# Altium schematic symbol library WCAP-PTG5.SchLib: 32 symbols
Pins are listed as number, name and electrical type; pins without a type are passive.

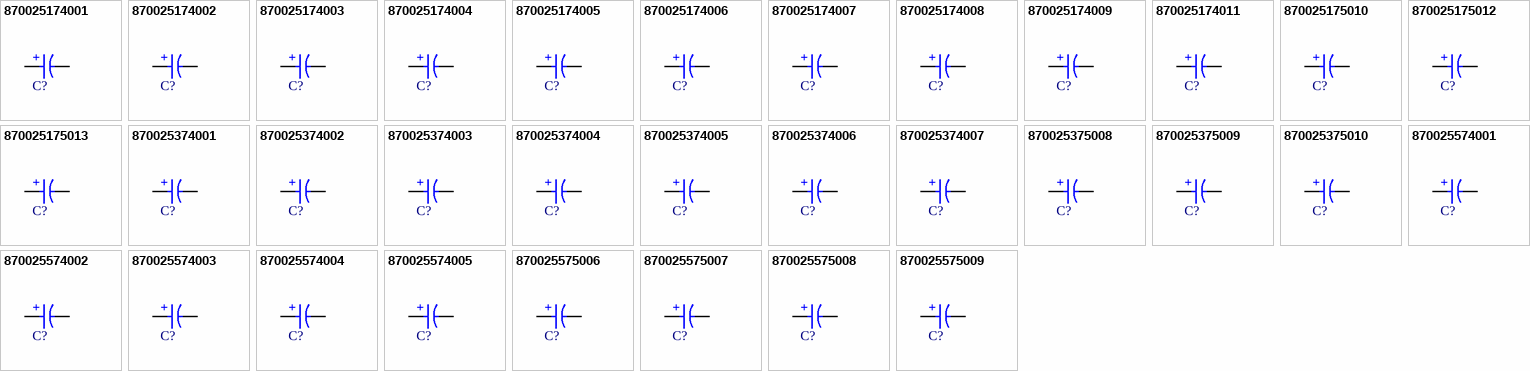
[diagram p0: symbols 870025174001 to 870025575009]

## 870025174001
designator C?, comment 180µF  (value not drawn)
WCAP-PTG5 Aluminum Polymer Capacitor, Radial THT, D8 x H8mm, 180µF, 6.3V; Manufacturer Part Number: 870025174001; Manufacturer: Wurth Elektronik; Capacitance Tolerance: +/-20%; Dissipation Factor: 7%; Endurance: 2000h; ESR: 21mΩ; Leakage Current: 226.8µA; Ripple Current: 5100mA; Technical Reference: PTEE080181M6R3DSPA7B000; Category: Aluminum Polymer Capacitors; Match Code: WCAP-PTG5; ComponentLink1Description: Website Link; ComponentLink1URL: https://www.we-online.com/redexpert/article/870025174001?ad; ComponentLink2Description: Datasheet Link; ComponentLink2URL: https://www.we-online.com/redexpert/spec/870025174001?ad; Mount: Through Hole; Operating Temperature Max: 105°C; Operating Temperature Min: -55°C; Packaging: Ammo Pack; Height: 8mm; Diameter: 8mm; Capacitance: 180µF; Rated Voltage (DC): 6.3V
footprint WCAP-PTG5_D8H8
simulation model 870025174001_180uF
pins: 1 P, 2 N
text: +

## 870025174002
designator C?, comment 220µF  (value not drawn)
WCAP-PTG5 Aluminum Polymer Capacitor, Radial THT, D8 x H8mm, 220µF, 6.3V; Manufacturer Part Number: 870025174002; Manufacturer: Wurth Elektronik; Capacitance Tolerance: +/-20%; Dissipation Factor: 7%; Endurance: 2000h; ESR: 21mΩ; Leakage Current: 277µA; Ripple Current: 5100mA; Technical Reference: PTEE080221M6R3DSPA7B000; Category: Aluminum Polymer Capacitors; Match Code: WCAP-PTG5; ComponentLink1Description: Website Link; ComponentLink1URL: https://www.we-online.com/redexpert/article/870025174002?ad; ComponentLink2Description: Datasheet Link; ComponentLink2URL: https://www.we-online.com/redexpert/spec/870025174002?ad; Mount: Through Hole; Operating Temperature Max: 105°C; Operating Temperature Min: -55°C; Packaging: Ammo Pack; Height: 8mm; Diameter: 8mm; Capacitance: 220µF; Rated Voltage (DC): 6.3V
footprint WCAP-PTG5_D8H8
simulation model 870025174002_220uF
pins: 1 P, 2 N
text: +

## 870025174003
designator C?, comment 270µF  (value not drawn)
WCAP-PTG5 Aluminum Polymer Capacitor, Radial THT, D8 x H8mm, 270µF, 6.3V; Manufacturer Part Number: 870025174003; Manufacturer: Wurth Elektronik; Capacitance Tolerance: +/-20%; Dissipation Factor: 7%; Endurance: 2000h; ESR: 21mΩ; Leakage Current: 340.2µA; Ripple Current: 5100mA; Technical Reference: PTEE080271M6R3DSPA7B000; Category: Aluminum Polymer Capacitors; Match Code: WCAP-PTG5; ComponentLink1Description: Website Link; ComponentLink1URL: https://www.we-online.com/redexpert/article/870025174003?ad; ComponentLink2Description: Datasheet Link; ComponentLink2URL: https://www.we-online.com/redexpert/spec/870025174003?ad; Mount: Through Hole; Operating Temperature Max: 105°C; Operating Temperature Min: -55°C; Packaging: Ammo Pack; Height: 8mm; Diameter: 8mm; Capacitance: 270µF; Rated Voltage (DC): 6.3V
footprint WCAP-PTG5_D8H8
simulation model 870025174003_270uF
pins: 1 P, 2 N
text: +

## 870025174004
designator C?, comment 330µF  (value not drawn)
WCAP-PTG5 Aluminum Polymer Capacitor, Radial THT, D8 x H8mm, 330µF, 6.3V; Manufacturer Part Number: 870025174004; Manufacturer: Wurth Elektronik; Capacitance Tolerance: +/-20%; Dissipation Factor: 7%; Endurance: 2000h; ESR: 15mΩ; Leakage Current: 416µA; Ripple Current: 5100mA; Technical Reference: PTEE080331M6R3DSPA7B000; Category: Aluminum Polymer Capacitors; Match Code: WCAP-PTG5; ComponentLink1Description: Website Link; ComponentLink1URL: https://www.we-online.com/redexpert/article/870025174004?ad; ComponentLink2Description: Datasheet Link; ComponentLink2URL: https://www.we-online.com/redexpert/spec/870025174004?ad; Mount: Through Hole; Operating Temperature Max: 105°C; Operating Temperature Min: -55°C; Packaging: Ammo Pack; Height: 8mm; Diameter: 8mm; Capacitance: 330µF; Rated Voltage (DC): 6.3V
footprint WCAP-PTG5_D8H8
simulation model 870025174004_330uF
pins: 1 P, 2 N
text: +

## 870025174005
designator C?, comment 390µF  (value not drawn)
WCAP-PTG5 Aluminum Polymer Capacitor, Radial THT, D8 x H8mm, 390µF, 6.3V; Manufacturer Part Number: 870025174005; Manufacturer: Wurth Elektronik; Capacitance Tolerance: +/-20%; Dissipation Factor: 8%; Endurance: 2000h; ESR: 15mΩ; Leakage Current: 491µA; Ripple Current: 5100mA; Technical Reference: PTEE080391M6R3DSPA7B000; Category: Aluminum Polymer Capacitors; Match Code: WCAP-PTG5; ComponentLink1Description: Website Link; ComponentLink1URL: https://www.we-online.com/redexpert/article/870025174005?ad; ComponentLink2Description: Datasheet Link; ComponentLink2URL: https://www.we-online.com/redexpert/spec/870025174005?ad; Mount: Through Hole; Operating Temperature Max: 105°C; Operating Temperature Min: -55°C; Packaging: Ammo Pack; Height: 8mm; Diameter: 8mm; Capacitance: 390µF; Rated Voltage (DC): 6.3V
footprint WCAP-PTG5_D8H8
simulation model 870025174005_390uF
pins: 1 P, 2 N
text: +

## 870025174006
designator C?, comment 470µF  (value not drawn)
WCAP-PTG5 Aluminum Polymer Capacitor, Radial THT, D8 x H8mm, 470µF, 6.3V; Manufacturer Part Number: 870025174006; Manufacturer: Wurth Elektronik; Capacitance Tolerance: +/-20%; Dissipation Factor: 8%; Endurance: 2000h; ESR: 12mΩ; Leakage Current: 592µA; Ripple Current: 5100mA; Technical Reference: PTEE080471M6R3DSPA7B000; Category: Aluminum Polymer Capacitors; Match Code: WCAP-PTG5; ComponentLink1Description: Website Link; ComponentLink1URL: https://www.we-online.com/redexpert/article/870025174006?ad; ComponentLink2Description: Datasheet Link; ComponentLink2URL: https://www.we-online.com/redexpert/spec/870025174006?ad; Mount: Through Hole; Operating Temperature Max: 105°C; Operating Temperature Min: -55°C; Packaging: Ammo Pack; Height: 8mm; Diameter: 8mm; Capacitance: 470µF; Rated Voltage (DC): 6.3V
footprint WCAP-PTG5_D8H8
simulation model 870025174006_470uF
pins: 1 P, 2 N
text: +

## 870025174007
designator C?, comment 560µF  (value not drawn)
WCAP-PTG5 Aluminum Polymer Capacitor, Radial THT, D8 x H8mm, 560µF, 6.3V; Manufacturer Part Number: 870025174007; Manufacturer: Wurth Elektronik; Capacitance Tolerance: +/-20%; Dissipation Factor: 8%; Endurance: 2000h; ESR: 12mΩ; Leakage Current: 705.6µA; Ripple Current: 5100mA; Technical Reference: PTEE080561M6R3DSPA7B000; Category: Aluminum Polymer Capacitors; Match Code: WCAP-PTG5; ComponentLink1Description: Website Link; ComponentLink1URL: https://www.we-online.com/redexpert/article/870025174007?ad; ComponentLink2Description: Datasheet Link; ComponentLink2URL: https://www.we-online.com/redexpert/spec/870025174007?ad; Mount: Through Hole; Operating Temperature Max: 105°C; Operating Temperature Min: -55°C; Packaging: Ammo Pack; Height: 8mm; Diameter: 8mm; Capacitance: 560µF; Rated Voltage (DC): 6.3V
footprint WCAP-PTG5_D8H8
simulation model 870025174007_560uF
pins: 1 P, 2 N
text: +

## 870025174008
designator C?, comment 680µF  (value not drawn)
WCAP-PTG5 Aluminum Polymer Capacitor, Radial THT, D8 x H8mm, 680µF, 6.3V; Manufacturer Part Number: 870025174008; Manufacturer: Wurth Elektronik; Capacitance Tolerance: +/-20%; Dissipation Factor: 8%; Endurance: 2000h; ESR: 10mΩ; Leakage Current: 428µA; Ripple Current: 5100mA; Technical Reference: PTEE080681M6R3DSPA7B000; Category: Aluminum Polymer Capacitors; Match Code: WCAP-PTG5; ComponentLink1Description: Website Link; ComponentLink1URL: https://www.we-online.com/redexpert/article/870025174008?ad; ComponentLink2Description: Datasheet Link; ComponentLink2URL: https://www.we-online.com/redexpert/spec/870025174008?ad; Mount: Through Hole; Operating Temperature Max: 105°C; Operating Temperature Min: -55°C; Packaging: Ammo Pack; Height: 8mm; Diameter: 8mm; Capacitance: 680µF; Rated Voltage (DC): 6.3V
footprint WCAP-PTG5_D8H8
simulation model 870025174008_680uF
pins: 1 P, 2 N
text: +

## 870025174009
designator C?, comment 820µF  (value not drawn)
WCAP-PTG5 Aluminum Polymer Capacitor, Radial THT, D8 x H8mm, 820µF, 6.3V; Manufacturer Part Number: 870025174009; Manufacturer: Wurth Elektronik; Capacitance Tolerance: +/-20%; Dissipation Factor: 10%; Endurance: 2000h; ESR: 12mΩ; Leakage Current: 516.6µA; Ripple Current: 5100mA; Technical Reference: PTEE080821M6R3DSPA7B000; Category: Aluminum Polymer Capacitors; Match Code: WCAP-PTG5; ComponentLink1Description: Website Link; ComponentLink1URL: https://www.we-online.com/redexpert/article/870025174009?ad; ComponentLink2Description: Datasheet Link; ComponentLink2URL: https://www.we-online.com/redexpert/spec/870025174009?ad; Mount: Through Hole; Operating Temperature Max: 105°C; Operating Temperature Min: -55°C; Packaging: Ammo Pack; Height: 8mm; Diameter: 8mm; Capacitance: 820µF; Rated Voltage (DC): 6.3V
footprint WCAP-PTG5_D8H8
simulation model 870025174009_820uF
pins: 1 P, 2 N
text: +

## 870025174011
designator C?, comment 1200µF  (value not drawn)
WCAP-PTG5 Aluminum Polymer Capacitor, Radial THT, D8 x H11.5mm, 1200µF, 6.3V; Manufacturer Part Number: 870025174011; Manufacturer: Wurth Elektronik; Capacitance Tolerance: +/-20%; Dissipation Factor: 10%; Endurance: 2000h; ESR: 12mΩ; Leakage Current: 756µA; Ripple Current: 5500mA; Technical Reference: PTEE115122M6R3DSPA7B000; Category: Aluminum Polymer Capacitors; Match Code: WCAP-PTG5; ComponentLink1Description: Website Link; ComponentLink1URL: https://www.we-online.com/redexpert/article/870025174011?ad; ComponentLink2Description: Datasheet Link; ComponentLink2URL: https://www.we-online.com/redexpert/spec/870025174011?ad; Mount: Through Hole; Operating Temperature Max: 105°C; Operating Temperature Min: -55°C; Packaging: Ammo Pack; Height: 11.5mm; Diameter: 8mm; Capacitance: 1200µF; Rated Voltage (DC): 6.3V
footprint WCAP-PTG5_D8H11.5
simulation model 870025174011_1.2mF
pins: 1 P, 2 N
text: +

## 870025175010
designator C?, comment 1000µF  (value not drawn)
WCAP-PTG5 Aluminum Polymer Capacitor, Radial THT, D10 x H12.5mm, 1000µF, 6.3V; Manufacturer Part Number: 870025175010; Manufacturer: Wurth Elektronik; Capacitance Tolerance: +/-20%; Dissipation Factor: 10%; Endurance: 2000h; ESR: 12mΩ; Leakage Current: 630µA; Ripple Current: 5900mA; Technical Reference: PTEF125102M6R3DSPA9B000; Category: Aluminum Polymer Capacitors; Match Code: WCAP-PTG5; ComponentLink1Description: Website Link; ComponentLink1URL: https://www.we-online.com/redexpert/article/870025175010?ad; ComponentLink2Description: Datasheet Link; ComponentLink2URL: https://www.we-online.com/redexpert/spec/870025175010?ad; Mount: Through Hole; Operating Temperature Max: 105°C; Operating Temperature Min: -55°C; Packaging: Ammo Pack; Height: 12.5mm; Diameter: 10mm; Capacitance: 1000µF; Rated Voltage (DC): 6.3V
footprint WCAP-PTG5_D10H12.5
simulation model 870025175010_1mF
pins: 1 P, 2 N
text: +

## 870025175012
designator C?, comment 1500µF  (value not drawn)
WCAP-PTG5 Aluminum Polymer Capacitor, Radial THT, D10 x H12.5mm, 1500µF, 6.3V; Manufacturer Part Number: 870025175012; Manufacturer: Wurth Elektronik; Capacitance Tolerance: +/-20%; Dissipation Factor: 10%; Endurance: 2000h; ESR: 12mΩ; Leakage Current: 945µA; Ripple Current: 5900mA; Technical Reference: PTEF125152M6R3DSPA9B000; Category: Aluminum Polymer Capacitors; Match Code: WCAP-PTG5; ComponentLink1Description: Website Link; ComponentLink1URL: https://www.we-online.com/redexpert/article/870025175012?ad; ComponentLink2Description: Datasheet Link; ComponentLink2URL: https://www.we-online.com/redexpert/spec/870025175012?ad; Mount: Through Hole; Operating Temperature Max: 105°C; Operating Temperature Min: -55°C; Packaging: Ammo Pack; Height: 12.5mm; Diameter: 10mm; Capacitance: 1500µF; Rated Voltage (DC): 6.3V
footprint WCAP-PTG5_D10H12.5
simulation model 870025175012_1.5mF
pins: 1 P, 2 N
text: +

## 870025175013
designator C?, comment 2000µF  (value not drawn)
WCAP-PTG5 Aluminum Polymer Capacitor, Radial THT, D10 x H12.5mm, 2000µF, 6.3V; Manufacturer Part Number: 870025175013; Manufacturer: Wurth Elektronik; Capacitance Tolerance: +/-20%; Dissipation Factor: 10%; Endurance: 2000h; ESR: 12mΩ; Leakage Current: 1260µA; Ripple Current: 5900mA; Technical Reference: PTEF125202M6R3DSPA9B000; Category: Aluminum Polymer Capacitors; Match Code: WCAP-PTG5; ComponentLink1Description: Website Link; ComponentLink1URL: https://www.we-online.com/redexpert/article/870025175013?ad; ComponentLink2Description: Datasheet Link; ComponentLink2URL: https://www.we-online.com/redexpert/spec/870025175013?ad; Mount: Through Hole; Operating Temperature Max: 105°C; Operating Temperature Min: -55°C; Packaging: Ammo Pack; Height: 12.5mm; Diameter: 10mm; Capacitance: 2000µF; Rated Voltage (DC): 6.3V
footprint WCAP-PTG5_D10H12.5
simulation model 870025175013_2mF
pins: 1 P, 2 N
text: +

## 870025374001
designator C?, comment 100µF  (value not drawn)
WCAP-PTG5 Aluminum Polymer Capacitor, Radial THT, D8 x H11.5mm, 100µF, 16V; Manufacturer Part Number: 870025374001; Manufacturer: Wurth Elektronik; Capacitance Tolerance: +/-20%; Dissipation Factor: 8%; Endurance: 2000h; ESR: 12mΩ; Leakage Current: 160µA; Ripple Current: 4800mA; Technical Reference: PTEE115101M016DSPA7B000; Category: Aluminum Polymer Capacitors; Match Code: WCAP-PTG5; ComponentLink1Description: Website Link; ComponentLink1URL: https://www.we-online.com/redexpert/article/870025374001?ad; ComponentLink2Description: Datasheet Link; ComponentLink2URL: https://www.we-online.com/redexpert/spec/870025374001?ad; Mount: Through Hole; Operating Temperature Max: 105°C; Operating Temperature Min: -55°C; Packaging: Ammo Pack; Height: 11.5mm; Diameter: 8mm; Capacitance: 100µF; Rated Voltage (DC): 16V
footprint WCAP-PTG5_D8H11.5
simulation model 870025374001_100uF
pins: 1 P, 2 N
text: +

## 870025374002
designator C?, comment 180µF  (value not drawn)
WCAP-PTG5 Aluminum Polymer Capacitor, Radial THT, D8 x H8mm, 180µF, 16V; Manufacturer Part Number: 870025374002; Manufacturer: Wurth Elektronik; Capacitance Tolerance: +/-20%; Dissipation Factor: 8%; Endurance: 2000h; ESR: 15mΩ; Leakage Current: 288µA; Ripple Current: 4500mA; Technical Reference: PTEE080181M016DSPA7B000; Category: Aluminum Polymer Capacitors; Match Code: WCAP-PTG5; ComponentLink1Description: Website Link; ComponentLink1URL: https://www.we-online.com/redexpert/article/870025374002?ad; ComponentLink2Description: Datasheet Link; ComponentLink2URL: https://www.we-online.com/redexpert/spec/870025374002?ad; Mount: Through Hole; Operating Temperature Max: 105°C; Operating Temperature Min: -55°C; Packaging: Ammo Pack; Height: 8mm; Diameter: 8mm; Capacitance: 180µF; Rated Voltage (DC): 16V
footprint WCAP-PTG5_D8H8
simulation model 870025374002_180uF
pins: 1 P, 2 N
text: +

## 870025374003
designator C?, comment 220µF  (value not drawn)
WCAP-PTG5 Aluminum Polymer Capacitor, Radial THT, D8 x H8mm, 220µF, 16V; Manufacturer Part Number: 870025374003; Manufacturer: Wurth Elektronik; Capacitance Tolerance: +/-20%; Dissipation Factor: 8%; Endurance: 2000h; ESR: 15mΩ; Leakage Current: 352µA; Ripple Current: 4500mA; Technical Reference: PTEE080221M016DSPA7B000; Category: Aluminum Polymer Capacitors; Match Code: WCAP-PTG5; ComponentLink1Description: Website Link; ComponentLink1URL: https://www.we-online.com/redexpert/article/870025374003?ad; ComponentLink2Description: Datasheet Link; ComponentLink2URL: https://www.we-online.com/redexpert/spec/870025374003?ad; Mount: Through Hole; Operating Temperature Max: 105°C; Operating Temperature Min: -55°C; Packaging: Ammo Pack; Height: 8mm; Diameter: 8mm; Capacitance: 220µF; Rated Voltage (DC): 16V
footprint WCAP-PTG5_D8H8
simulation model 870025374003_220uF
pins: 1 P, 2 N
text: +

## 870025374004
designator C?, comment 270µF  (value not drawn)
WCAP-PTG5 Aluminum Polymer Capacitor, Radial THT, D8 x H8mm, 270µF, 16V; Manufacturer Part Number: 870025374004; Manufacturer: Wurth Elektronik; Capacitance Tolerance: +/-20%; Dissipation Factor: 8%; Endurance: 2000h; ESR: 12mΩ; Leakage Current: 432µA; Ripple Current: 4500mA; Technical Reference: PTEE080271M016DSPA7B000; Category: Aluminum Polymer Capacitors; Match Code: WCAP-PTG5; ComponentLink1Description: Website Link; ComponentLink1URL: https://www.we-online.com/redexpert/article/870025374004?ad; ComponentLink2Description: Datasheet Link; ComponentLink2URL: https://www.we-online.com/redexpert/spec/870025374004?ad; Mount: Through Hole; Operating Temperature Max: 105°C; Operating Temperature Min: -55°C; Packaging: Ammo Pack; Height: 8mm; Diameter: 8mm; Capacitance: 270µF; Rated Voltage (DC): 16V
footprint WCAP-PTG5_D8H8
simulation model 870025374004_270uF
pins: 1 P, 2 N
text: +

## 870025374005
designator C?, comment 330µF  (value not drawn)
WCAP-PTG5 Aluminum Polymer Capacitor, Radial THT, D8 x H8mm, 330µF, 16V; Manufacturer Part Number: 870025374005; Manufacturer: Wurth Elektronik; Capacitance Tolerance: +/-20%; Dissipation Factor: 8%; Endurance: 2000h; ESR: 12mΩ; Leakage Current: 528µA; Ripple Current: 4500mA; Technical Reference: PTEE080331M016DSPA7B000; Category: Aluminum Polymer Capacitors; Match Code: WCAP-PTG5; ComponentLink1Description: Website Link; ComponentLink1URL: https://www.we-online.com/redexpert/article/870025374005?ad; ComponentLink2Description: Datasheet Link; ComponentLink2URL: https://www.we-online.com/redexpert/spec/870025374005?ad; Mount: Through Hole; Operating Temperature Max: 105°C; Operating Temperature Min: -55°C; Packaging: Ammo Pack; Height: 8mm; Diameter: 8mm; Capacitance: 330µF; Rated Voltage (DC): 16V
footprint WCAP-PTG5_D8H8
simulation model 870025374005_330uF
pins: 1 P, 2 N
text: +

## 870025374006
designator C?, comment 390µF  (value not drawn)
WCAP-PTG5 Aluminum Polymer Capacitor, Radial THT, D8 x H11.5mm, 390µF, 16V; Manufacturer Part Number: 870025374006; Manufacturer: Wurth Elektronik; Capacitance Tolerance: +/-20%; Dissipation Factor: 8%; Endurance: 2000h; ESR: 12mΩ; Leakage Current: 624µA; Ripple Current: 5000mA; Technical Reference: PTEE115391M016DSPA7B000; Category: Aluminum Polymer Capacitors; Match Code: WCAP-PTG5; ComponentLink1Description: Website Link; ComponentLink1URL: https://www.we-online.com/redexpert/article/870025374006?ad; ComponentLink2Description: Datasheet Link; ComponentLink2URL: https://www.we-online.com/redexpert/spec/870025374006?ad; Mount: Through Hole; Operating Temperature Max: 105°C; Operating Temperature Min: -55°C; Packaging: Ammo Pack; Height: 11.5mm; Diameter: 8mm; Capacitance: 390µF; Rated Voltage (DC): 16V
footprint WCAP-PTG5_D8H11.5
simulation model 870025374006_390uF
pins: 1 P, 2 N
text: +

## 870025374007
designator C?, comment 470µF  (value not drawn)
WCAP-PTG5 Aluminum Polymer Capacitor, Radial THT, D8 x H11.5mm, 470µF, 16V; Manufacturer Part Number: 870025374007; Manufacturer: Wurth Elektronik; Capacitance Tolerance: +/-20%; Dissipation Factor: 10%; Endurance: 2000h; ESR: 12mΩ; Leakage Current: 752µA; Ripple Current: 5000mA; Technical Reference: PTEE115471M016DSPA7B000; Category: Aluminum Polymer Capacitors; Match Code: WCAP-PTG5; ComponentLink1Description: Website Link; ComponentLink1URL: https://www.we-online.com/redexpert/article/870025374007?ad; ComponentLink2Description: Datasheet Link; ComponentLink2URL: https://www.we-online.com/redexpert/spec/870025374007?ad; Mount: Through Hole; Operating Temperature Max: 105°C; Operating Temperature Min: -55°C; Packaging: Ammo Pack; Height: 11.5mm; Diameter: 8mm; Capacitance: 470µF; Rated Voltage (DC): 16V
footprint WCAP-PTG5_D8H11.5
simulation model 870025374007_470uF
pins: 1 P, 2 N
text: +

## 870025375008
designator C?, comment 560µF  (value not drawn)
WCAP-PTG5 Aluminum Polymer Capacitor, Radial THT, D10 x H12.5mm, 560µF, 16V; Manufacturer Part Number: 870025375008; Manufacturer: Wurth Elektronik; Capacitance Tolerance: +/-20%; Dissipation Factor: 10%; Endurance: 2000h; ESR: 12mΩ; Leakage Current: 896µA; Ripple Current: 5500mA; Technical Reference: PTEF125561M016DSPA9B000; Category: Aluminum Polymer Capacitors; Match Code: WCAP-PTG5; ComponentLink1Description: Website Link; ComponentLink1URL: https://www.we-online.com/redexpert/article/870025375008?ad; ComponentLink2Description: Datasheet Link; ComponentLink2URL: https://www.we-online.com/redexpert/spec/870025375008?ad; Mount: Through Hole; Operating Temperature Max: 105°C; Operating Temperature Min: -55°C; Packaging: Ammo Pack; Height: 12.5mm; Diameter: 10mm; Capacitance: 560µF; Rated Voltage (DC): 16V
footprint WCAP-PTG5_D10H12.5
simulation model 870025375008_560uF
pins: 1 P, 2 N
text: +

## 870025375009
designator C?, comment 680µF  (value not drawn)
WCAP-PTG5 Aluminum Polymer Capacitor, Radial THT, D10 x H12.5mm, 680µF, 16V; Manufacturer Part Number: 870025375009; Manufacturer: Wurth Elektronik; Capacitance Tolerance: +/-20%; Dissipation Factor: 10%; Endurance: 2000h; ESR: 12mΩ; Leakage Current: 1000µA; Ripple Current: 5500mA; Technical Reference: PTEF125681M016DSPA9B000; Category: Aluminum Polymer Capacitors; Match Code: WCAP-PTG5; ComponentLink1Description: Website Link; ComponentLink1URL: https://www.we-online.com/redexpert/article/870025375009?ad; ComponentLink2Description: Datasheet Link; ComponentLink2URL: https://www.we-online.com/redexpert/spec/870025375009?ad; Mount: Through Hole; Operating Temperature Max: 105°C; Operating Temperature Min: -55°C; Packaging: Ammo Pack; Height: 12.5mm; Diameter: 10mm; Capacitance: 680µF; Rated Voltage (DC): 16V
footprint WCAP-PTG5_D10H12.5
simulation model 870025375009_680uF
pins: 1 P, 2 N
text: +

## 870025375010
designator C?, comment 820µF  (value not drawn)
WCAP-PTG5 Aluminum Polymer Capacitor, Radial THT, D10 x H12.5mm, 820µF, 16V; Manufacturer Part Number: 870025375010; Manufacturer: Wurth Elektronik; Capacitance Tolerance: +/-20%; Dissipation Factor: 10%; Endurance: 2000h; ESR: 12mΩ; Leakage Current: 1000µA; Ripple Current: 5500mA; Technical Reference: PTEF125821M016DSPA9B000; Category: Aluminum Polymer Capacitors; Match Code: WCAP-PTG5; ComponentLink1Description: Website Link; ComponentLink1URL: https://www.we-online.com/redexpert/article/870025375010?ad; ComponentLink2Description: Datasheet Link; ComponentLink2URL: https://www.we-online.com/redexpert/spec/870025375010?ad; Mount: Through Hole; Operating Temperature Max: 105°C; Operating Temperature Min: -55°C; Packaging: Ammo Pack; Height: 12.5mm; Diameter: 10mm; Capacitance: 820µF; Rated Voltage (DC): 16V
footprint WCAP-PTG5_D10H12.5
simulation model 870025375010_820uF
pins: 1 P, 2 N
text: +

## 870025574001
designator C?, comment 39µF  (value not drawn)
WCAP-PTG5 Aluminum Polymer Capacitor, Radial THT, D8 x H8mm, 39µF, 25V; Manufacturer Part Number: 870025574001; Manufacturer: Wurth Elektronik; Capacitance Tolerance: +/-20%; Dissipation Factor: 8%; Endurance: 2000h; ESR: 25mΩ; Leakage Current: 195µA; Ripple Current: 4500mA; Technical Reference: PTEE080390M025DSPA7B000; Category: Aluminum Polymer Capacitors; Match Code: WCAP-PTG5; ComponentLink1Description: Website Link; ComponentLink1URL: https://www.we-online.com/redexpert/article/870025574001?ad; ComponentLink2Description: Datasheet Link; ComponentLink2URL: https://www.we-online.com/redexpert/spec/870025574001?ad; Mount: Through Hole; Operating Temperature Max: 105°C; Operating Temperature Min: -55°C; Packaging: Ammo Pack; Height: 8mm; Diameter: 8mm; Capacitance: 39µF; Rated Voltage (DC): 25V
footprint WCAP-PTG5_D8H8
simulation model 870025574001_39uF
pins: 1 P, 2 N
text: +

## 870025574002
designator C?, comment 47µF  (value not drawn)
WCAP-PTG5 Aluminum Polymer Capacitor, Radial THT, D8 x H8mm, 47µF, 25V; Manufacturer Part Number: 870025574002; Manufacturer: Wurth Elektronik; Capacitance Tolerance: +/-20%; Dissipation Factor: 8%; Endurance: 2000h; ESR: 20mΩ; Leakage Current: 235µA; Ripple Current: 4500mA; Technical Reference: PTEE080470M025DSPA7B000; Category: Aluminum Polymer Capacitors; Match Code: WCAP-PTG5; ComponentLink1Description: Website Link; ComponentLink1URL: https://www.we-online.com/redexpert/article/870025574002?ad; ComponentLink2Description: Datasheet Link; ComponentLink2URL: https://www.we-online.com/redexpert/spec/870025574002?ad; Mount: Through Hole; Operating Temperature Max: 105°C; Operating Temperature Min: -55°C; Packaging: Ammo Pack; Height: 8mm; Diameter: 8mm; Capacitance: 47µF; Rated Voltage (DC): 25V
footprint WCAP-PTG5_D8H8
simulation model 870025574002_47uF
pins: 1 P, 2 N
text: +

## 870025574003
designator C?, comment 68µF  (value not drawn)
WCAP-PTG5 Aluminum Polymer Capacitor, Radial THT, D8 x H8mm, 68µF, 25V; Manufacturer Part Number: 870025574003; Manufacturer: Wurth Elektronik; Capacitance Tolerance: +/-20%; Dissipation Factor: 8%; Endurance: 2000h; ESR: 20mΩ; Leakage Current: 340µA; Ripple Current: 4500mA; Technical Reference: PTEE080680M025DSPA7B000; Category: Aluminum Polymer Capacitors; Match Code: WCAP-PTG5; ComponentLink1Description: Website Link; ComponentLink1URL: https://www.we-online.com/redexpert/article/870025574003?ad; ComponentLink2Description: Datasheet Link; ComponentLink2URL: https://www.we-online.com/redexpert/spec/870025574003?ad; Mount: Through Hole; Operating Temperature Max: 105°C; Operating Temperature Min: -55°C; Packaging: Ammo Pack; Height: 8mm; Diameter: 8mm; Capacitance: 68µF; Rated Voltage (DC): 25V
footprint WCAP-PTG5_D8H8
simulation model 870025574003_68uF
pins: 1 P, 2 N
text: +

## 870025574004
designator C?, comment 82µF  (value not drawn)
WCAP-PTG5 Aluminum Polymer Capacitor, Radial THT, D8 x H8mm, 82µF, 25V; Manufacturer Part Number: 870025574004; Manufacturer: Wurth Elektronik; Capacitance Tolerance: +/-20%; Dissipation Factor: 8%; Endurance: 2000h; ESR: 20mΩ; Leakage Current: 410µA; Ripple Current: 4500mA; Technical Reference: PTEE080820M025DSPA7B000; Category: Aluminum Polymer Capacitors; Match Code: WCAP-PTG5; ComponentLink1Description: Website Link; ComponentLink1URL: https://www.we-online.com/redexpert/article/870025574004?ad; ComponentLink2Description: Datasheet Link; ComponentLink2URL: https://www.we-online.com/redexpert/spec/870025574004?ad; Mount: Through Hole; Operating Temperature Max: 105°C; Operating Temperature Min: -55°C; Packaging: Ammo Pack; Height: 8mm; Diameter: 8mm; Capacitance: 82µF; Rated Voltage (DC): 25V
footprint WCAP-PTG5_D8H8
simulation model 870025574004_82uF
pins: 1 P, 2 N
text: +

## 870025574005
designator C?, comment 100µF  (value not drawn)
WCAP-PTG5 Aluminum Polymer Capacitor, Radial THT, D8 x H8mm, 100µF, 25V; Manufacturer Part Number: 870025574005; Manufacturer: Wurth Elektronik; Capacitance Tolerance: +/-20%; Dissipation Factor: 8%; Endurance: 2000h; ESR: 15mΩ; Leakage Current: 500µA; Ripple Current: 4500mA; Technical Reference: PTEE080101M025DSPA7B000; Category: Aluminum Polymer Capacitors; Match Code: WCAP-PTG5; ComponentLink1Description: Website Link; ComponentLink1URL: https://www.we-online.com/redexpert/article/870025574005?ad; ComponentLink2Description: Datasheet Link; ComponentLink2URL: https://www.we-online.com/redexpert/spec/870025574005?ad; Mount: Through Hole; Operating Temperature Max: 105°C; Operating Temperature Min: -55°C; Packaging: Ammo Pack; Height: 8mm; Diameter: 8mm; Capacitance: 100µF; Rated Voltage (DC): 25V
footprint WCAP-PTG5_D8H8
simulation model 870025574005_100uF
pins: 1 P, 2 N
text: +

## 870025575006
designator C?, comment 180µF  (value not drawn)
WCAP-PTG5 Aluminum Polymer Capacitor, Radial THT, D10 x H12.5mm, 180µF, 25V; Manufacturer Part Number: 870025575006; Manufacturer: Wurth Elektronik; Capacitance Tolerance: +/-20%; Dissipation Factor: 8%; Endurance: 2000h; ESR: 20mΩ; Leakage Current: 900µA; Ripple Current: 4900mA; Technical Reference: PTEF125181M025DSPA9B000; Category: Aluminum Polymer Capacitors; Match Code: WCAP-PTG5; ComponentLink1Description: Website Link; ComponentLink1URL: https://www.we-online.com/redexpert/article/870025575006?ad; ComponentLink2Description: Datasheet Link; ComponentLink2URL: https://www.we-online.com/redexpert/spec/870025575006?ad; Mount: Through Hole; Operating Temperature Max: 105°C; Operating Temperature Min: -55°C; Packaging: Ammo Pack; Height: 12.5mm; Diameter: 10mm; Capacitance: 180µF; Rated Voltage (DC): 25V
footprint WCAP-PTG5_D10H12.5
simulation model 870025575006_180uF
pins: 1 P, 2 N
text: +

## 870025575007
designator C?, comment 220µF  (value not drawn)
WCAP-PTG5 Aluminum Polymer Capacitor, Radial THT, D10 x H12.5mm, 220µF, 25V; Manufacturer Part Number: 870025575007; Manufacturer: Wurth Elektronik; Capacitance Tolerance: +/-20%; Dissipation Factor: 8%; Endurance: 2000h; ESR: 20mΩ; Leakage Current: 1100µA; Ripple Current: 4900mA; Technical Reference: PTEF125221M025DSPA9B000; Category: Aluminum Polymer Capacitors; Match Code: WCAP-PTG5; ComponentLink1Description: Website Link; ComponentLink1URL: https://www.we-online.com/redexpert/article/870025575007?ad; ComponentLink2Description: Datasheet Link; ComponentLink2URL: https://www.we-online.com/redexpert/spec/870025575007?ad; Mount: Through Hole; Operating Temperature Max: 105°C; Operating Temperature Min: -55°C; Packaging: Ammo Pack; Height: 12.5mm; Diameter: 10mm; Capacitance: 220µF; Rated Voltage (DC): 25V
footprint WCAP-PTG5_D10H12.5
simulation model 870025575007_220uF
pins: 1 P, 2 N
text: +

## 870025575008
designator C?, comment 270µF  (value not drawn)
WCAP-PTG5 Aluminum Polymer Capacitor, Radial THT, D10 x H12.5mm, 270µF, 25V; Manufacturer Part Number: 870025575008; Manufacturer: Wurth Elektronik; Capacitance Tolerance: +/-20%; Dissipation Factor: 8%; Endurance: 2000h; ESR: 20mΩ; Leakage Current: 1350µA; Ripple Current: 4900mA; Technical Reference: PTEF125271M025DSPA9B000; Category: Aluminum Polymer Capacitors; Match Code: WCAP-PTG5; ComponentLink1Description: Website Link; ComponentLink1URL: https://www.we-online.com/redexpert/article/870025575008?ad; ComponentLink2Description: Datasheet Link; ComponentLink2URL: https://www.we-online.com/redexpert/spec/870025575008?ad; Mount: Through Hole; Operating Temperature Max: 105°C; Operating Temperature Min: -55°C; Packaging: Ammo Pack; Height: 12.5mm; Diameter: 10mm; Capacitance: 270µF; Rated Voltage (DC): 25V
footprint WCAP-PTG5_D10H12.5
simulation model 870025575008_270uF
pins: 1 P, 2 N
text: +

## 870025575009
designator C?, comment 330µF  (value not drawn)
WCAP-PTG5 Aluminum Polymer Capacitor, Radial THT, D10 x H12.5mm, 330µF, 25V; Manufacturer Part Number: 870025575009; Manufacturer: Wurth Elektronik; Capacitance Tolerance: +/-20%; Dissipation Factor: 8%; Endurance: 2000h; ESR: 20mΩ; Leakage Current: 1650µA; Ripple Current: 4900mA; Technical Reference: PTEF125331M025DSPA9B000; Category: Aluminum Polymer Capacitors; Match Code: WCAP-PTG5; ComponentLink1Description: Website Link; ComponentLink1URL: https://www.we-online.com/redexpert/article/870025575009?ad; ComponentLink2Description: Datasheet Link; ComponentLink2URL: https://www.we-online.com/redexpert/spec/870025575009?ad; Mount: Through Hole; Operating Temperature Max: 105°C; Operating Temperature Min: -55°C; Packaging: Ammo Pack; Height: 12.5mm; Diameter: 10mm; Capacitance: 330µF; Rated Voltage (DC): 25V
footprint WCAP-PTG5_D10H12.5
simulation model 870025575009_330uF
pins: 1 P, 2 N
text: +